# Altium footprint library R-78E5.0-0.5.PcbLib: 1 footprints
Each footprint in its own frame and in the unit in brackets; x right, y up, seen from the top. Pads: shape width x height; smd on the part's side, far side on the other; paste and mask are expansions set on the pad; w line width, h text height; cw(c..) or ccw(c..) is an arc to the next point about the centre after c.
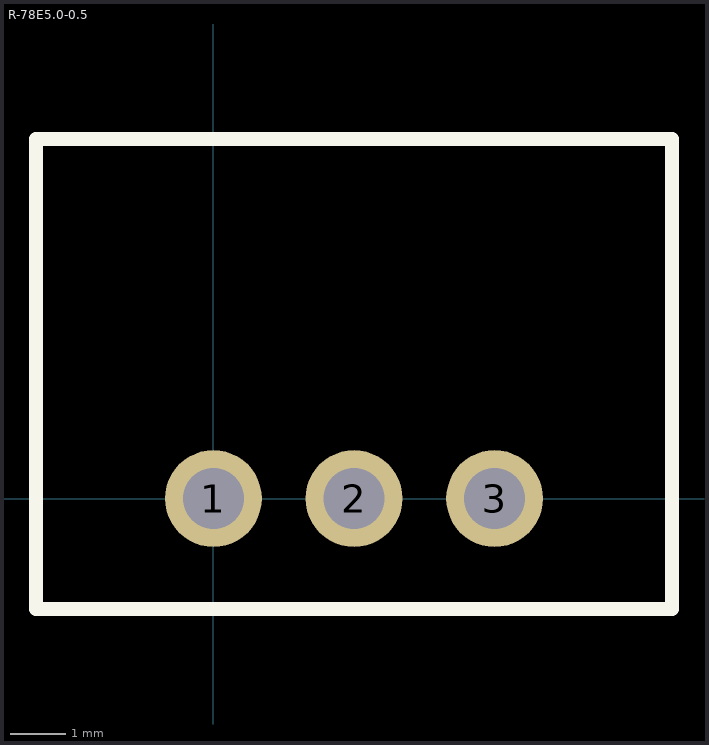
[diagram p0: the footprint, top view; thin cyan lines are the x and y axes]

## R-78E5.0-0.5 [mm] "5V .5A DC/DC module"
pads (3):
  round 1.75 hole 1.1: 1(0,0) 2(2.54,0) 3(5.08,0)
Top Overlay:
  lines w0.254: -3.21,-2 -3.21,6.5 8.29,6.5 8.29,-2 -3.21,-2
Bottom Overlay:
  text "5V" at 5.69,-2.007 h0.75
  text "IN" at 0.533,-2.007 h0.75